# Altium footprint library NCP1680.PcbLib: 1 footprints
Each footprint in its own frame and in the unit in brackets; x right, y up, seen from the top. Pads: shape width x height; smd on the part's side, far side on the other; paste and mask are expansions set on the pad; w line width, h text height; cw(c..) or ccw(c..) is an arc to the next point about the centre after c.
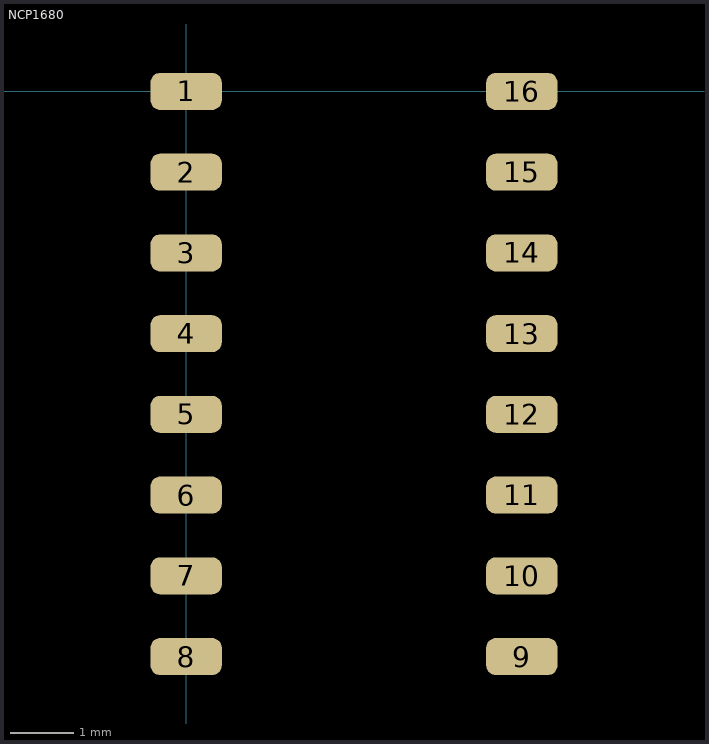
[diagram p0: the footprint, top view; thin cyan lines are the x and y axes]

## NCP1680 [mm]
pads (16):
  rrect50% 1.12x0.58 smd: 1(0,0) 2(0,-1.27) 3(0,-2.54) 4(0,-3.81) 5(0,-5.08) 6(0,-6.35) 7(0,-7.62) 8(0,-8.89) 9(5.28,-8.89) 10(5.28,-7.62) 11(5.28,-6.35) 12(5.28,-5.08) 13(5.28,-3.81) 14(5.28,-2.54) 15(5.28,-1.27) 16(5.28,0)